# Altium schematic symbol library Schlib1.SchLib: 77 symbols
Pins are listed as number, name and electrical type; pins without a type are passive.

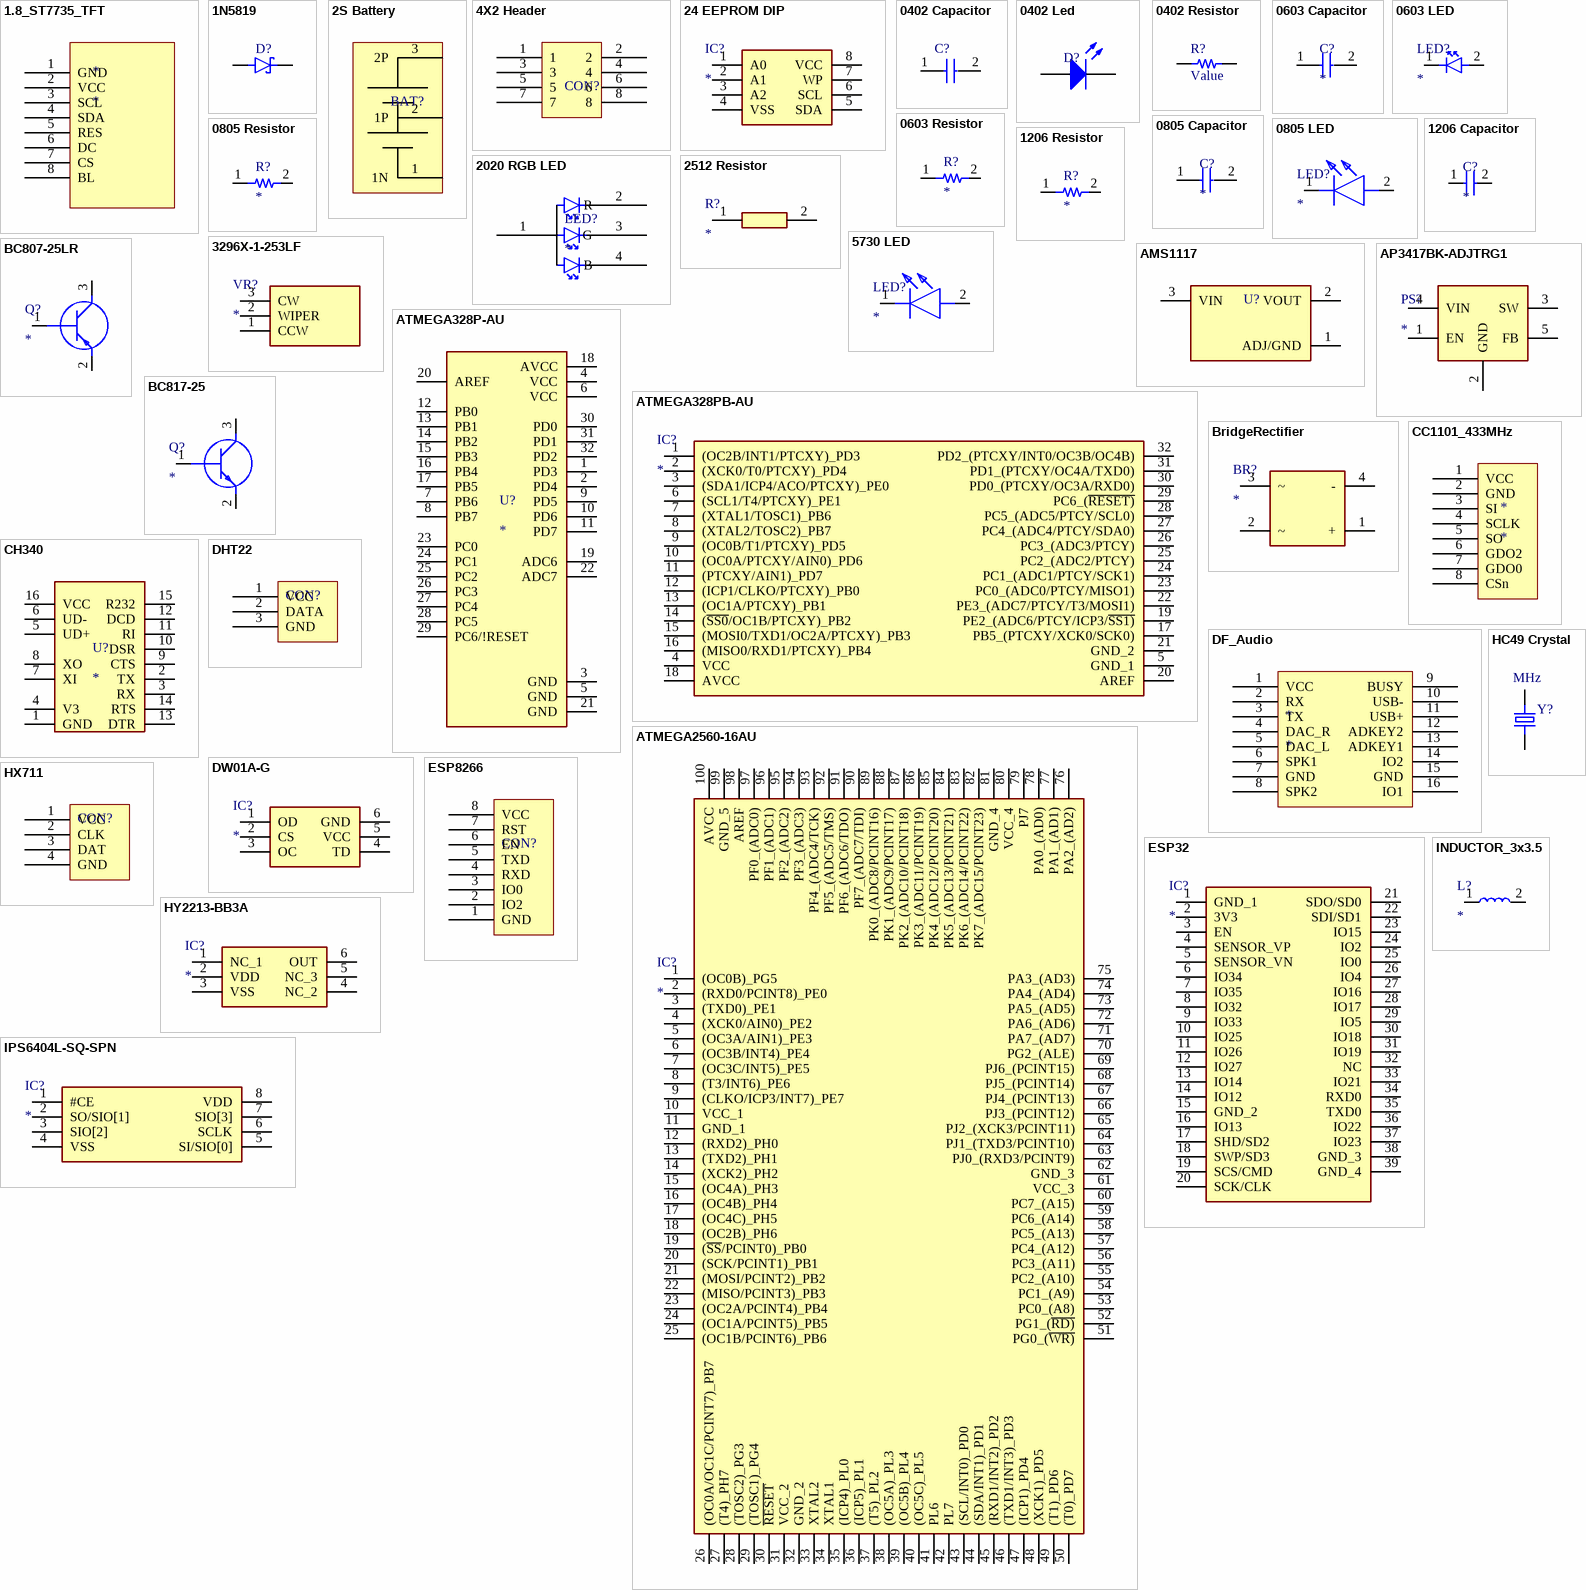
[diagram p0: symbols 1.8_ST7735_TFT to IPS6404L-SQ-SPN]

## 1.8_ST7735_TFT
designator *
footprint 1.8_ST7735_TFT
pins: 1 GND, 2 VCC, 3 SCL, 4 SDA, 5 RES, 6 DC, 7 CS, 8 BL

## 1N5819
designator D?
MF: Diodes Inc.; MP: 1N5819HW-7-F; Price: None; Package: SOD-123 Diodes Inc.; Value: *; SnapEDA_Link: https://www.snapeda.com/parts/1N5819HW-7-F/Diodes%20Inc./view-part/42272/?ref=snap; Availability: Unavailable
footprint 1N5819
pins: A, C K

## 2S Battery
designator BAT?
footprint Battery Connector
pins: 1 1N, 2 1P, 3 2P

## 4X2 Header
designator CON?
footprint 4x2
pins: 1, 2, 3, 4, 5, 6, 7, 8

## 24 EEPROM DIP
designator IC?
Integrated Circuit; Manufacturer_Name: Microchip; Manufacturer_Part_Number: 24AA025-I/P; Datasheet Link: http://ww1.microchip.com/downloads/en/DeviceDoc/21210N.pdf; Height: 5.334mm; Mouser Part Number: 579-24AA025-I/P; Mouser Price/Stock: https://www.mouser.com/Search/Refine.aspx?Keyword=579-24AA025-I%2FP; Arrow Part Number: 24AA025-I/P; Arrow Price/Stock: https://www.arrow.com/en/products/24aa025-ip/microchip-technology
footprint DIP 24 EEPROM
pins: 1 A0, 2 A1, 3 A2, 4 VSS, 5 SDA, 6 SCL, 7 WP, 8 VCC

## 0402 Capacitor
designator C?
Part Number: CL05A106MP8NUB8; Manufacturer: Samsung Electro-Mechanics; Capacitance: 10µF; Temperature Coefficient: X5R; Tolerance: ±20%; Voltage - Rated: 10V; Applications: General Purpose; ComponentLink1Description: Datasheet; ComponentLink1URL: http://www.samsungsem.com/kr/support/product-search/mlcc/CL05A106MP8NUB8.jsp; ComponentLink2Description: DigiKey Link; ComponentLink2URL: http://digikey.com/product-detail/en/samsung-electro-mechanics/CL05A106MP8NUB8/1276-6830-1-ND/5961689; Device Package: 0402 (1005 Metric); LastUpdated: 19.01.2020 16:07:13; Lifecycle Status: Active; Minimum Order: 1; Mounting Type: Surface Mount, MLCC; Operating Temperature: -55°C ~ 85°C; Package / Case: 0402 (1005 Metric); Packaging: TapeAndReel; PartId: 1758; Part Status: Active; Price: 0.08; Series: CL; Size / Dimension: 0.039" L x 0.020" W (1.00mm x 0.50mm); Supplier 1: DigiKey; Supplier Part Number 1: 1276-6830-1-ND; Thickness (Max): 0.035" (0.90mm)
footprint 0402 Cap
pins: 1, 2

## 0402 Led
designator D?
footprint 0402 Led
pins: 1 A, 2 K

## 0402 Resistor
designator R?, comment Value
Part Number: RP73PF1E10KBTD; Manufacturer: TE Connectivity Passive Product; Power (Watts): 0.1W, 1/10W; Resistance: 10 kOhms; Temperature Coefficient: ±25ppm/°C; Tolerance: ±0.1%; ComponentLink1Description: Datasheet; ComponentLink1URL: https://www.te.com/commerce/DocumentDelivery/DDEController?Action=srchrtrv&DocNm=1773272&DocType=DS&DocLang=English; ComponentLink2Description: DigiKey Link; ComponentLink2URL: http://digikey.com/product-detail/en/te-connectivity-passive-product/RP73PF1E10KBTD/A127415CT-ND/8261381; Composition: Thin Film; Device Package: 0402 (1005 Metric); Height - Seated (Max): 0.014" (0.35mm); LastUpdated: 19.01.2020 16:11:48; Lifecycle Status: Active; Minimum Order: 1; Number of Terminations: 2; Operating Temperature: -55°C ~ 155°C; Package / Case: 0402 (1005 Metric); Packaging: TapeAndReel; PartId: 2434; Part Status: Active; Price: 0.08; Series: RP73P, Holsworthy; Size / Dimension: 0.039" L x 0.020" W (1.00mm x 0.50mm); Supplier 1: DigiKey; Supplier Part Number 1: A127415CT-ND; Supplier Device Package: 0402; Value: Value
footprint 0402 Res
pins: 1, 2

## 0603 Capacitor
designator C?
Capacitor; Manufacturer_Name: AVX; Manufacturer_Part_Number: 06031A120JAT2A; Datasheet Link: http://www.mouser.com/catalog/supplier/library/pdf/AVXSurfaceMountCeramic.pdf; Height: 0.9mm; Mouser Part Number: 581-06031A120J; Mouser Price/Stock: https://www.mouser.co.uk/ProductDetail/AVX/06031A120JAT2A?qs=tMrmimOZp5UsY%252BxF6dNGxQ%3D%3D; Arrow Part Number: 06031A120JAT2A; Arrow Price/Stock: https://www.arrow.com/en/products/06031a120jat2a/avx
footprint 0603 Capacitor
pins: 1, 2

## 0603 LED
designator LED?
LED; Manufacturer_Name: Wurth Elektronik; Manufacturer_Part_Number: 150060GS55040; Datasheet Link: https://katalog.we-online.de/led/datasheet/150060GS55040.pdf; Height: 0.5mm; Mouser Part Number: 710-150060GS55040; Mouser Price/Stock: https://www.mouser.com/Search/Refine.aspx?Keyword=710-150060GS55040
footprint 0603 LED
pins: 1 K, 2 A

## 0603 Resistor
designator R?
Resistor; Manufacturer_Name: TE Connectivity; Manufacturer_Part_Number: CPF0603B100RE1; Datasheet Link: http://www.farnell.com/datasheets/1786775.pdf; Height: 0.55mm; Mouser Part Number: 279-CPF0603B100RE1; Mouser Price/Stock: https://www.mouser.co.uk/ProductDetail/TE-Connectivity-Neohm/CPF0603B100RE1?qs=DfH2yQaBz6s2KWheq2AlNw%3D%3D; Arrow Part Number: CPF0603B100RE1; Arrow Price/Stock: https://www.arrow.com/en/products/cpf0603b100re1/te-connectivity
footprint 0603 Resistor
pins: 1, 2

## 0805 Capacitor
designator C?
Capacitor; Manufacturer_Name: TDK; Manufacturer_Part_Number: C3216C0G1H682J060AA; Datasheet Link: https://product.tdk.com/info/en/catalog/datasheets/mlcc_commercial_midvoltage_en.pdf; Height: 0.75mm; Mouser Part Number: 810-C3216C0G1H682J-1; Mouser Price/Stock: https://www.mouser.com/Search/Refine.aspx?Keyword=810-C3216C0G1H682J-1
footprint 0805 Capacitor
pins: 1, 2

## 0805 LED
designator LED?
LED; Manufacturer_Name: Wurth Elektronik; Manufacturer_Part_Number: 150060GS55040; Datasheet Link: https://katalog.we-online.de/led/datasheet/150060GS55040.pdf; Height: 0.5mm; Mouser Part Number: 710-150060GS55040; Mouser Price/Stock: https://www.mouser.com/Search/Refine.aspx?Keyword=710-150060GS55040
footprint 0805 LED
pins: 1 K, 2 A

## 0805 Resistor
designator R?
Resistor; Manufacturer_Name: TE Connectivity; Manufacturer_Part_Number: CPF0603B100RE1; Datasheet Link: http://www.farnell.com/datasheets/1786775.pdf; Height: 0.55mm; Mouser Part Number: 279-CPF0603B100RE1; Mouser Price/Stock: https://www.mouser.co.uk/ProductDetail/TE-Connectivity-Neohm/CPF0603B100RE1?qs=DfH2yQaBz6s2KWheq2AlNw%3D%3D; Arrow Part Number: CPF0603B100RE1; Arrow Price/Stock: https://www.arrow.com/en/products/cpf0603b100re1/te-connectivity
footprint 0805 Resistor
pins: 1, 2

## 1206 Capacitor
designator C?
Capacitor; Manufacturer_Name: TDK; Manufacturer_Part_Number: C3216C0G1H682J060AA; Datasheet Link: https://product.tdk.com/info/en/catalog/datasheets/mlcc_commercial_midvoltage_en.pdf; Height: 0.75mm; Mouser Part Number: 810-C3216C0G1H682J-1; Mouser Price/Stock: https://www.mouser.com/Search/Refine.aspx?Keyword=810-C3216C0G1H682J-1
footprint 1206 Cap
pins: 1, 2

## 1206 Resistor
designator R?
Resistor; Manufacturer_Name: Bourns; Manufacturer_Part_Number: CR1206-FX-10R0ELF; Datasheet Link: http://www.bourns.com/data/global/pdfs/CHPREZTR.pdf; Height: 0.75mm; Mouser Part Number: 652-CR1206FX-10R0ELF; Mouser Price/Stock: https://www.mouser.com/Search/Refine.aspx?Keyword=652-CR1206FX-10R0ELF; Arrow Part Number: CR1206-FX-10R0ELF; Arrow Price/Stock: https://www.arrow.com/en/products/cr1206-fx-10r0elf/bourns
footprint 1206 Resistor
pins: 1, 2

## 2020 RGB LED
designator LED?
LED; Manufacturer_Name: Foshan NationStar Optoelectronics; Manufacturer_Part_Number: FM-B2020RGBA-HG; Datasheet Link: https://datasheet.lcsc.com/szlcsc/Foshan-NationStar-Optoelectronics-FM-B2020RGBA-HG_C108793.pdf; Height: 1.1mm
footprint 20x20 RGB LED
pins: 1, 2 R, 3 G, 4 B

## 2512 Resistor
designator R?
Resistor; Manufacturer_Name: Bourns; Manufacturer_Part_Number: CR2512-F/-1R00ELF; Height: 0.75mm; Mouser Part Number: 652-CR2512-F/1R00ELF; Mouser Price/Stock: https://www.mouser.co.uk/ProductDetail/Bourns/CR2512-F-1R00ELF/?qs=W%2FMpXkg%252BdQ6b1PcPiGLK9Q%3D%3D
footprint 2512 Resistor
pins: 1, 2

## 3296X-1-253LF
designator VR?
Variable Resistor; Manufacturer_Name: Bourns; Manufacturer_Part_Number: 3296X-1-253LF; Datasheet Link: https://www.bourns.com/pdfs/3296.pdf; Height: 10.28mm; Mouser Part Number: 652-3296X-1-253LF; Mouser Price/Stock: https://www.mouser.co.uk/ProductDetail/Bourns/3296X-1-253LF/?qs=vjljXApjgZXIAn2HCf0jBQ%3D%3D; Arrow Part Number: 3296X-1-253LF; Arrow Price/Stock: https://www.arrow.com/en/products/3296x-1-253lf/bourns
footprint 3296X1253LF
pins: 1 CCW, 2 WIPER, 3 CW

## 5730 LED
designator LED?
LED; Manufacturer_Name: Wurth Elektronik; Manufacturer_Part_Number: 150060GS55040; Datasheet Link: https://katalog.we-online.de/led/datasheet/150060GS55040.pdf; Height: 0.5mm; Mouser Part Number: 710-150060GS55040; Mouser Price/Stock: https://www.mouser.com/Search/Refine.aspx?Keyword=710-150060GS55040
footprint 5730 LED
pins: 1 K, 2 A

## AMS1117
designator U?
MP: AMS1117; MF: Seeed Technology; Availability: Unavailable; SnapEDA_Link: https://www.snapeda.com/parts/AMS1117/Seeed%20Technology%20Co.%2C%20Ltd/view-part/184428/?ref=snap; Price: None; Value: *; Package: SOT-223 Seeed Technology
footprint AMS1117_SOT223
pins: 1 ADJ/GND (power), 2 VOUT, 3 VIN

## AP3417BK-ADJTRG1
designator PS?
Power Supply; Manufacturer_Name: Diodes Inc.; Manufacturer_Part_Number: AP3417BK-ADJTRG1; Datasheet Link: https://www.diodes.com/assets/Datasheets/AP3417B.pdf; Height: 1.45mm; Mouser Part Number: 621-AP3417BK-ADJTRG1; Mouser Price/Stock: https://www.mouser.com/Search/Refine.aspx?Keyword=621-AP3417BK-ADJTRG1; Arrow Part Number: AP3417BK-ADJTRG1; Arrow Price/Stock: https://www.arrow.com/en/products/ap3417bk-adjtrg1/diodes-incorporated
footprint SOT BUCK
pins: 1 EN, 2 GND, 3 SW, 4 VIN, 5 FB

## ATMEGA328P-AU
designator U?
MP: ATMEGA328P-AU; MF: Microchip Technology; Availability: Unavailable; Package: TQFP-32 Microchip Technology; Value: *; Price: None; SnapEDA_Link: https://www.snapeda.com/parts/ATMEGA328P-AU/Microchip/view-part/4593405/?ref=snap
footprint 328p-au
pins: 1 PD3, 2 PD4, 3 GND (power), 4 VCC (power), 5 GND (power), 6 VCC (power), 7 PB6, 8 PB7, 9 PD5, 10 PD6, 11 PD7, 12 PB0, 13 PB1, 14 PB2, 15 PB3, 16 PB4, 17 PB5, 18 AVCC (power), 19 ADC6, 20 AREF, 21 GND (power), 22 ADC7, 23 PC0, 24 PC1, 25 PC2, 26 PC3, 27 PC4, 28 PC5, 29 PC6/!RESET, 30 PD0, 31 PD1, 32 PD2

## ATMEGA328PB-AU
designator IC?
Integrated Circuit; Manufacturer_Name: Microchip; Manufacturer_Part_Number: ATMEGA328PB-AU; Datasheet Link: http://www.farnell.com/datasheets/2014286.pdf; Height: 1.2mm; Mouser Part Number: 556-ATMEGA328PB-AU; Mouser Price/Stock: https://www.mouser.co.uk/ProductDetail/Microchip-Technology-Atmel/ATMEGA328PB-AU?qs=jy4bLUHv09hbFONgGrqPbw%3D%3D; Arrow Part Number: ATMEGA328PB-AU; Arrow Price/Stock: https://www.arrow.com/en/products/atmega328pb-au/microchip-technology
footprint 328PB-AU
pins: 1 (OC2B/INT1/PTCXY)_PD3, 2 (XCK0/T0/PTCXY)_PD4, 3 (SDA1/ICP4/ACO/PTCXY)_PE0, 4 VCC, 5 GND_1, 6 (SCL1/T4/PTCXY)_PE1, 7 (XTAL1/TOSC1)_PB6, 8 (XTAL2/TOSC2)_PB7, 9 (OC0B/T1/PTCXY)_PD5, 10 (OC0A/PTCXY/AIN0)_PD6, 11 (PTCXY/AIN1)_PD7, 12 (ICP1/CLKO/PTCXY)_PB0, 13 (OC1A/PTCXY)_PB1, 14 (~{SS0}/OC1B/PTCXY)_PB2, 15 (MOSI0/TXD1/OC2A/PTCXY)_PB3, 16 (MISO0/RXD1/PTCXY)_PB4, 17 PB5_(PTCXY/XCK0/SCK0), 18 AVCC, 19 PE2_(ADC6/PTCY/ICP3/~{SS1)}, 20 AREF, 21 GND_2, 22 PE3_(ADC7/PTCY/T3/MOSI1), 23 PC0_(ADC0/PTCY/MISO1), 24 PC1_(ADC1/PTCY/SCK1), 25 PC2_(ADC2/PTCY), 26 PC3_(ADC3/PTCY), 27 PC4_(ADC4/PTCY/SDA0), 28 PC5_(ADC5/PTCY/SCL0), 29 PC6_(~{RESET)}, 30 PD0_(PTCXY/OC3A/RXD0), 31 PD1_(PTCXY/OC4A/TXD0), 32 PD2_(PTCXY/INT0/OC3B/OC4B)

## ATMEGA2560-16AU
designator IC?
Integrated Circuit; Manufacturer_Name: Microchip; Manufacturer_Part_Number: ATMEGA2560-16AU; Datasheet Link: http://docs-emea.rs-online.com/webdocs/0d68/0900766b80d68730.pdf; Height: 1.2mm; Mouser Part Number: 556-ATMEGA2560-16AU; Mouser Price/Stock: https://www.mouser.co.uk/ProductDetail/Microchip-Technology-Atmel/ATMEGA2560-16AU?qs=aqrrBurbvGciYmlAokFS0w%3D%3D; Arrow Part Number: ATMEGA2560-16AU; Arrow Price/Stock: https://www.arrow.com/en/products/atmega2560-16au/microchip-technology
footprint ATMEGA2560
pins: 1 (OC0B)_PG5, 2 (RXD0/PCINT8)_PE0, 3 (TXD0)_PE1, 4 (XCK0/AIN0)_PE2, 5 (OC3A/AIN1)_PE3, 6 (OC3B/INT4)_PE4, 7 (OC3C/INT5)_PE5, 8 (T3/INT6)_PE6, 9 (CLKO/ICP3/INT7)_PE7, 10 VCC_1, 11 GND_1, 12 (RXD2)_PH0, 13 (TXD2)_PH1, 14 (XCK2)_PH2, 15 (OC4A)_PH3, 16 (OC4B)_PH4, 17 (OC4C)_PH5, 18 (OC2B)_PH6, 19 (~{SS}/PCINT0)_PB0, 20 (SCK/PCINT1)_PB1, 21 (MOSI/PCINT2)_PB2, 22 (MISO/PCINT3)_PB3, 23 (OC2A/PCINT4)_PB4, 24 (OC1A/PCINT5)_PB5, 25 (OC1B/PCINT6)_PB6, 26 (OC0A/OC1C/PCINT7)_PB7, 27 (T4)_PH7, 28 (TOSC2)_PG3, 29 (TOSC1)_PG4, 30 ~{RESET}, 31 VCC_2, 32 GND_2, 33 XTAL2, 34 XTAL1, 35 (ICP4)_PL0, 36 (ICP5)_PL1, 37 (T5)_PL2, 38 (OC5A)_PL3, 39 (OC5B)_PL4, 40 (OC5C)_PL5, 41 PL6, 42 PL7, 43 (SCL/INT0)_PD0, 44 (SDA/INT1)_PD1, 45 (RXD1/INT2)_PD2, 46 (TXD1/INT3)_PD3, 47 (ICP1)_PD4, 48 (XCK1)_PD5, 49 (T1)_PD6, 50 (T0)_PD7, 51 PG0_(~{WR)}, 52 PG1_(~{RD)}, 53 PC0_(A8), 54 PC1_(A9), 55 PC2_(A10), 56 PC3_(A11), 57 PC4_(A12), 58 PC5_(A13), 59 PC6_(A14), 60 PC7_(A15), 61 VCC_3, 62 GND_3, 63 PJ0_(RXD3/PCINT9), 64 PJ1_(TXD3/PCINT10), 65 PJ2_(XCK3/PCINT11), 66 PJ3_(PCINT12), 67 PJ4_(PCINT13), 68 PJ5_(PCINT14), 69 PJ6_(PCINT15), 70 PG2_(ALE), 71 PA7_(AD7), 72 PA6_(AD6), 73 PA5_(AD5), 74 PA4_(AD4), 75 PA3_(AD3), 76 PA2_(AD2), 77 PA1_(AD1), 78 PA0_(AD0), 79 PJ7, 80 VCC_4, 81 GND_4, 82 PK7_(ADC15/PCINT23), 83 PK6_(ADC14/PCINT22), 84 PK5_(ADC13/PCINT21), 85 PK4_(ADC12/PCINT20), 86 PK3_(ADC11/PCINT19), 87 PK2_(ADC10/PCINT18), 88 PK1_(ADC9/PCINT17), 89 PK0_(ADC8/PCINT16), 90 PF7_(ADC7/TDI), 91 PF6_(ADC6/TDO), 92 PF5_(ADC5/TMS), 93 PF4_(ADC4/TCK), 94 PF3_(ADC3), 95 PF2_(ADC2), 96 PF1_(ADC1), 97 PF0_(ADC0), 98 AREF, 99 GND_5, 100 AVCC

## BC807-25LR
designator Q?
Transistor BJT PNP; Manufacturer_Name: Nexperia; Manufacturer_Part_Number: BC807-25LR; Datasheet Link: https://assets.nexperia.com/documents/data-sheet/BC807L_BC807LW.pdf; Height: 1.1mm; Mouser Part Number: 771-BC807-25LR; Mouser Price/Stock: https://www.mouser.co.uk/ProductDetail/Nexperia/BC807-25LR?qs=f9yNj16SXrKCSYJnQQBFCw%3D%3D
footprint BC807
pins: 1 B, 2 E, 3 C

## BC817-25
designator Q?
Transistor BJT NPN; Manufacturer_Name: Nexperia; Manufacturer_Part_Number: BC817-25; Datasheet Link: https://assets.nexperia.com/documents/data-sheet/BC817_BC817W_BC337.pdf; Height: 1.1mm; Mouser Part Number: N/A; Mouser Price/Stock: https://www.mouser.com/Search/Refine.aspx?Keyword=N%2FA
footprint BC817
pins: 1 B, 2 E, 3 C

## BridgeRectifier
designator BR?
Bridge Rectifier; Manufacturer_Name: Comchip Technology; Manufacturer_Part_Number: GBU1502-G; Datasheet Link: http://www.comchiptech.com/admin/files/product/GBU10005-G%20Thru401984.%20GBU1010-G%20RevC.pdf; Height: 19.1mm; Mouser Part Number: 750-GBU1502-G; Mouser Price/Stock: https://www.mouser.com/Search/Refine.aspx?Keyword=750-GBU1502-G
footprint GBU15
pins: 1 +, 2 ~, 3 ~, 4 -

## CC1101_433MHz
designator *
footprint CC1101_433MHz
pins: 1 VCC, 2 GND, 3 SI, 4 SCLK, 5 SO, 6 GDO2, 7 GDO0, 8 CSn

## CH340
designator U?
MF: Eaton; MP: CH340; Availability: Unavailable; Price: None; Package: None; Value: *; SnapEDA_Link: https://www.snapeda.com/parts/CH340/Eaton/view-part/4701946/?ref=snap
footprint ch340g-SOIC16
pins: 1 GND (power), 2 TX, 3 RX, 4 V3, 5 UD+, 6 UD-, 7 XI, 8 XO, 9 CTS, 10 DSR, 11 RI, 12 DCD, 13 DTR, 14 RTS, 15 R232, 16 VCC

## DF_Audio
designator *
footprint DF_AUDIO
pins: 1 VCC, 2 RX, 3 TX, 4 DAC_R, 5 DAC_L, 6 SPK1, 7 GND, 8 SPK2, 9 BUSY, 10 USB-, 11 USB+, 12 ADKEY2, 13 ADKEY1, 14 IO2, 15 GND, 16 IO1

## DHT22
designator CON?
footprint DHT22; pin to pad 3>4
pins: 1 VCC, 2 DATA, 3 GND

## DW01A-G
designator IC?
Integrated Circuit; Manufacturer_Name: Fortune Semiconductor Corporation; Manufacturer_Part_Number: DW01A-G; Datasheet Link: http://acoptex.com/uploads/DW01A.pdf; Height: 1.35mm
footprint DW01a
pins: 1 OD, 2 CS, 3 OC, 4 TD, 5 VCC, 6 GND

## ESP32
designator IC?
Integrated Circuit; Manufacturer_Name: Espressif Systems; Manufacturer_Part_Number: ESP-WROOM-32D; Datasheet Link: https://componentsearchengine.com/Datasheets/1/ESP-WROOM-32D.pdf; Height: 3.2mm; Mouser Part Number: 356-ESP-WROOM-32D; Mouser Price/Stock: https://www.mouser.co.uk/ProductDetail/Espressif-Systems/ESP-WROOM-32D?qs=MLItCLRbWsyWVKgdQMcFuQ%3D%3D
footprint ESP32
pins: 1 GND_1, 2 3V3, 3 EN, 4 SENSOR_VP, 5 SENSOR_VN, 6 IO34, 7 IO35, 8 IO32, 9 IO33, 10 IO25, 11 IO26, 12 IO27, 13 IO14, 14 IO12, 15 GND_2, 16 IO13, 17 SHD/SD2, 18 SWP/SD3, 19 SCS/CMD, 20 SCK/CLK, 21 SDO/SD0, 22 SDI/SD1, 23 IO15, 24 IO2, 25 IO0, 26 IO4, 27 IO16, 28 IO17, 29 IO5, 30 IO18, 31 IO19, 32 NC, 33 IO21, 34 RXD0, 35 TXD0, 36 IO22, 37 IO23, 38 GND_3, 39 GND_4

## ESP8266
designator CON?
footprint ESP8266
pins: 1 GND, 2 IO2, 3 IO0, 4 RXD, 5 TXD, 6 EN, 7 RST, 8 VCC

## HC49 Crystal
designator Y?  value MHz
MF: ECS Inc.; MP: ECS-80-18-4XDN; Digi-Key_Part_Number: X1115-ND; Package: HC-49/US ECS International; SnapEDA_Link: https://www.snapeda.com/parts/ECS-80-18-4XDN/ECS%20Inc./view-part/49558/?ref=snap; Digi-Key_Purchase_URL: https://www.digikey.in/product-detail/en/ecs-inc/ECS-80-18-4XDN/X1115-ND/827606?utm_source=snapeda&utm_medium=aggregator&utm_campaign=symbol
footprint Crystal-HC49
pins: 1, 2

## HX711
designator CON?
footprint HX711
pins: 1 VCC, 2 CLK, 3 DAT, 4 GND

## HY2213-BB3A
designator IC?
Integrated Circuit; Manufacturer_Name: Hycon; Manufacturer_Part_Number: HY2213-BB3A; Datasheet Link: https://datasheet.lcsc.com/szlcsc/HYCON-Tech-HY2213-BB3A_C113632.pdf; Height: 1.4mm
footprint HY2213
pins: 1 NC_1, 2 VDD, 3 VSS, 4 NC_2, 5 NC_3, 6 OUT

## INDUCTOR_3x3.5
designator L?
Inductor; Manufacturer_Name: Shuo Xing; Manufacturer_Part_Number: CD32-4R7M; Datasheet Link: http://aitendo3.sakura.ne.jp/aitendo_data/product_img/parts/coil/CD32/CD32.pdf; Height: 2.4mm
footprint INDUCTOR_3x3.5
pins: 1, 2

## IPS6404L-SQ-SPN
designator IC?
Integrated Circuit; Manufacturer_Name: Electrodragon; Manufacturer_Part_Number: IPS6404L-SQ-SPN; Datasheet Link: https://github.com/Edragon/Datasheet/blob/master/IPUS/IPUS%2064Mbit.pdf; Height: 1.75mm
footprint SOIC127P600X175-8N
pins: 1 #CE, 2 SO/SIO[1], 3 SIO[2], 4 VSS, 5 SI/SIO[0], 6 SCLK, 7 SIO[3], 8 VDD

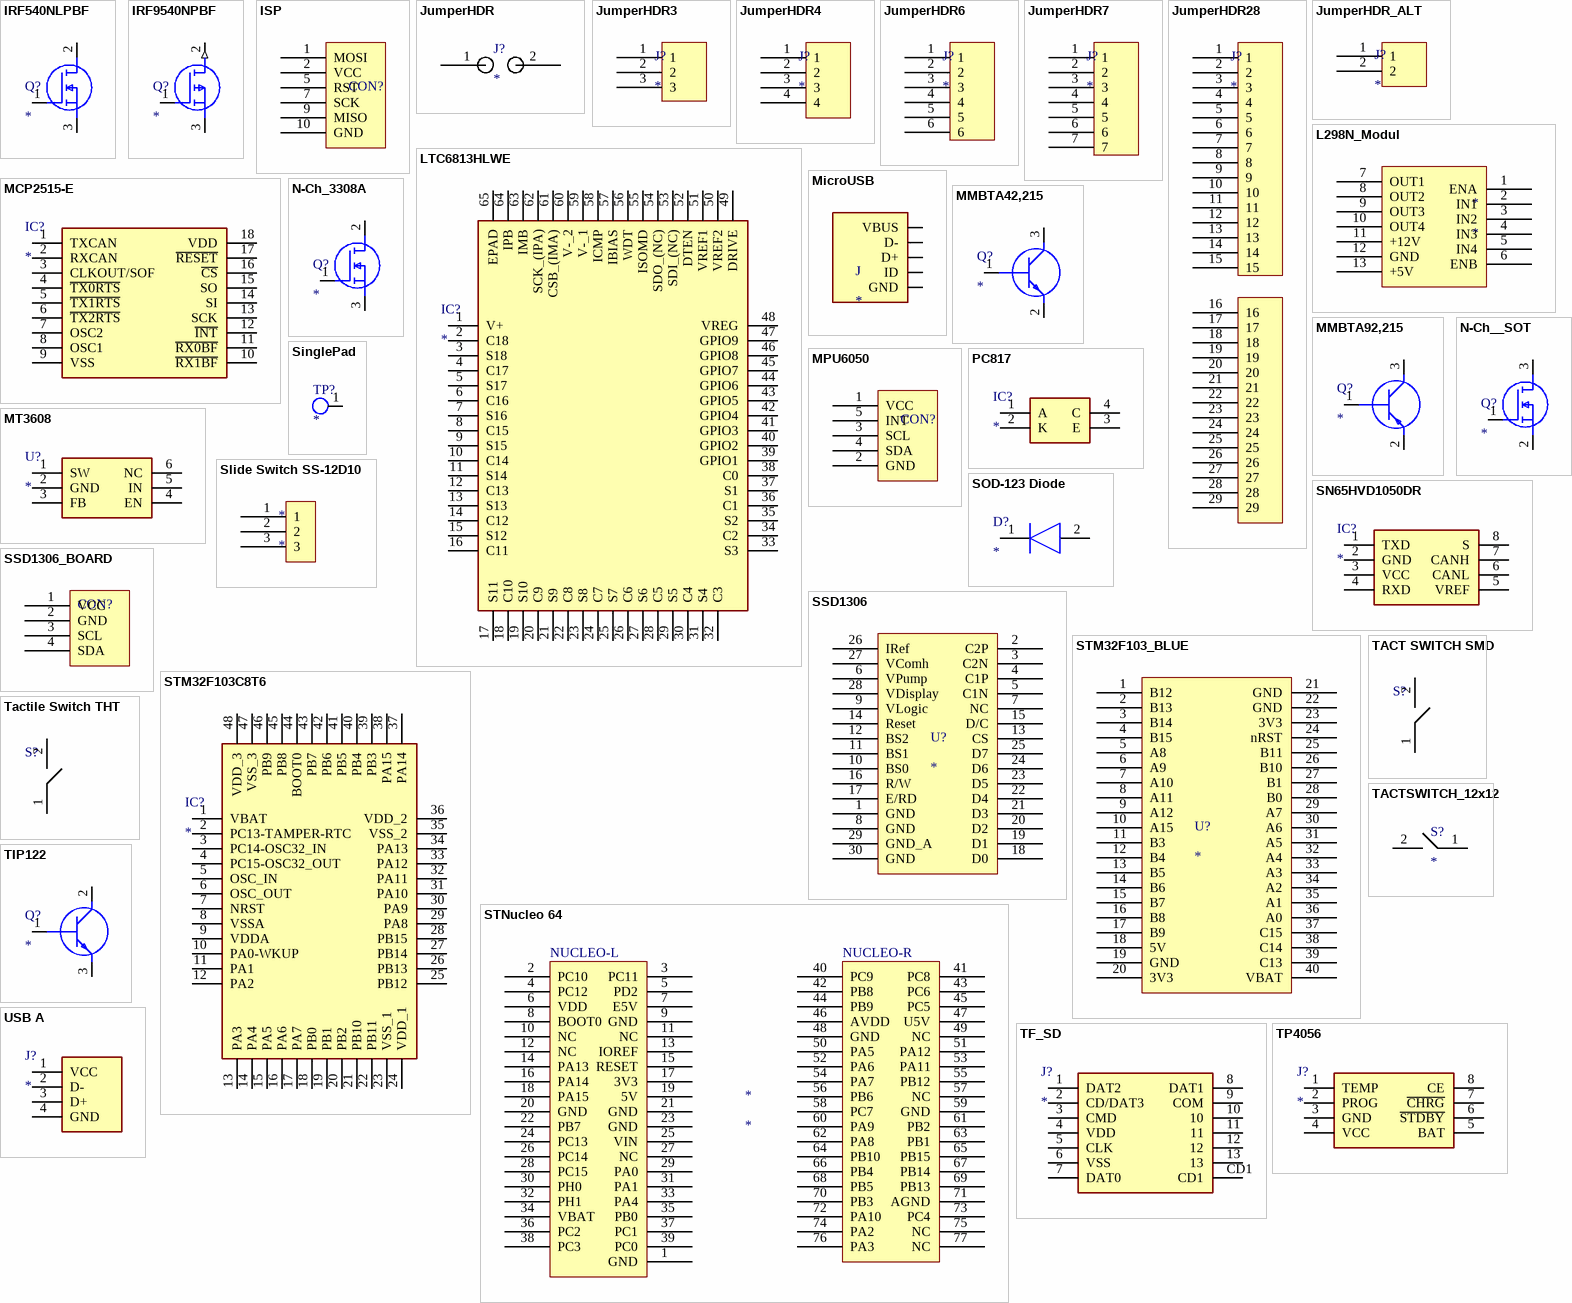
[diagram p1: symbols IRF540NLPBF to USB A]

## IRF540NLPBF
designator Q?
MOSFET (N-Channel); Manufacturer_Name: Infineon; Manufacturer_Part_Number: IRF540NLPBF; Datasheet Link: https://www.infineon.com/dgdl/irf540nspbf.pdf?fileId=5546d462533600a4015355e3a72819a3; Height: 4.83mm; Mouser Part Number: 942-IRF540NLPBF; Mouser Price/Stock: https://www.mouser.co.uk/ProductDetail/Infineon-IR/IRF540NLPBF?qs=9%252BKlkBgLFf0FQw5bWQHS0A%3D%3D; Arrow Part Number: IRF540NLPBF; Arrow Price/Stock: https://www.arrow.com/en/products/irf540nlpbf/infineon-technologies-ag?region=europe
footprint TO254P483X1016X1501-3P
pins: 1 G, 2 D, 3 S

## IRF9540NPBF
designator Q?
MOSFET (P-Channel); Manufacturer_Name: Infineon; Manufacturer_Part_Number: IRF9540NPBF; Datasheet Link: https://www.infineon.com/dgdl/irf9540npbf.pdf?fileId=5546d462533600a401535611cfa21dc8; Height: 4.69mm; Mouser Part Number: 942-IRF9540NPBF; Mouser Price/Stock: https://www.mouser.co.uk/ProductDetail/Infineon-IR/IRF9540NPBF?qs=9%252BKlkBgLFf0vnuA8mxUPtw%3D%3D; Arrow Part Number: IRF9540NPBF; Arrow Price/Stock: https://www.arrow.com/en/products/irf9540npbf/infineon-technologies-ag?region=nac
footprint TO254P469X1042X1967-3P
pins: 1 G (power), 2 D (out), 3 S (power)

## ISP
designator CON?
footprint ISP; pin to pad 10>4
pins: 1 MOSI, 2 VCC, 5 RST, 7 SCK, 9 MISO, 10 GND

## JumperHDR
designator J?
footprint JumperHDR
pins: 1, 2

## JumperHDR3
designator J?
footprint JumperHDR3
pins: 1, 2, 3

## JumperHDR4
designator J?
footprint JumperHDR4
pins: 1, 2, 3, 4

## JumperHDR6
designator J?
footprint JumperHDR6
pins: 1, 2, 3, 4, 5, 6

## JumperHDR7
designator J?
footprint JumperHDR7
pins: 1, 2, 3, 4, 5, 6, 7

## JumperHDR28
designator J?
footprint JUMPERHDR28
pins: 1, 2, 3, 4, 5, 6, 7, 8, 9, 10, 11, 12, 13, 14, 15, 16, 17, 18, 19, 20, 21, 22, 23, 24, 25, 26, 27, 28, 29

## JumperHDR_ALT
designator J?
footprint JumperHDR
pins: 1, 2

## L298N_Modul
designator *
footprint L298N_Modul
pins: 1 ENA, 2 IN1, 3 IN2, 4 IN3, 5 IN4, 6 ENB, 7 OUT1, 8 OUT2, 9 OUT3, 10 OUT4, 11 +12V, 12 GND, 13 +5V

## LTC6813HLWE
designator IC?
Manufacturer_Name: Linear Technology; Manufacturer_Part_Number: LTC6813HLWE-1#3ZZPBF; Datasheet Link: https://www.analog.com/media/en/technical-documentation/data-sheets/LTC6813-1.pdf; Height: 1.6mm; Mouser Part Number: 584-6813HLWE13ZZPBF; Mouser Price/Stock: https://www.mouser.co.uk/ProductDetail/Analog-Devices-Linear-Technology/LTC6813HLWE-13ZZPBF?qs=lYGu3FyN48e3Qu9IYnRGuQ%3D%3D; Arrow Part Number: LTC6813HLWE-1#3ZZPBF; Arrow Price/Stock: https://www.arrow.com/en/products/ltc6813hlwe-13zzpbf/linear-technology
footprint LTC6813HLWE
pins: 1 V+, 2 C18, 3 S18, 4 C17, 5 S17, 6 C16, 7 S16, 8 C15, 9 S15, 10 C14, 11 S14, 12 C13, 13 S13, 14 C12, 15 S12, 16 C11, 17 S11, 18 C10, 19 S10, 20 C9, 21 S9, 22 C8, 23 S8, 24 C7, 25 S7, 26 C6, 27 S6, 28 C5, 29 S5, 30 C4, 31 S4, 32 C3, 33 S3, 34 C2, 35 S2, 36 C1, 37 S1, 38 C0, 39 GPIO1, 40 GPIO2, 41 GPIO3, 42 GPIO4, 43 GPIO5, 44 GPIO6, 45 GPIO7, 46 GPIO8, 47 GPIO9, 48 VREG, 49 DRIVE, 50 VREF2, 51 VREF1, 52 DTEN, 53 SDI_(NC), 54 SDO_(NC), 55 ISOMD, 56 WDT, 57 IBIAS, 58 ICMP, 59 V-_1, 60 V-_2, 61 CSB_(IMA), 62 SCK_(IPA), 63 IMB, 64 IPB, 65 EPAD

## MCP2515-E
designator IC?
Integrated Circuit; Manufacturer_Name: Microchip; Manufacturer_Part_Number: MCP2515-E/SO; Datasheet Link: http://ww1.microchip.com/downloads/en/DeviceDoc/21801G.pdf; Height: 2.65mm; Mouser Part Number: 579-MCP2515-E/SO; Mouser Price/Stock: https://www.mouser.co.uk/ProductDetail/Microchip-Technology/MCP2515-E-SO?qs=y1t9dHv1DsLUSXaU9a01fg%3D%3D; Arrow Part Number: MCP2515-E/SO; Arrow Price/Stock: https://www.arrow.com/en/products/mcp2515-eso/microchip-technology
footprint MCP2515
pins: 1 TXCAN, 2 RXCAN, 3 CLKOUT/SOF, 4 ~{TX0RTS}, 5 ~{TX1RTS}, 6 ~{TX2RTS}, 7 OSC2, 8 OSC1, 9 VSS, 10 ~{RX1BF}, 11 ~{RX0BF}, 12 ~{INT}, 13 SCK, 14 SI, 15 SO, 16 ~{CS}, 17 ~{RESET}, 18 VDD

## MicroUSB
designator J
MP: ZX62-B-5PA; MF: Hirose; Value: *; Price: None; SnapEDA_Link: https://www.snapeda.com/parts/ZX62-B-5PA/Hirose%20Electric%20Co%20Ltd/view-part/134668/?ref=snap; Availability: Unavailable; Package: None
footprint MicroUSB
pins: 1 VBUS (power), 2 D-, 3 D+, 4 ID, 5 GND (power)

## MMBTA42,215
designator Q?
Transistor BJT NPN; Manufacturer_Name: Nexperia; Manufacturer_Part_Number: MMBTA42,215; Datasheet Link: http://assets.nexperia.com/documents/data-sheet/MMBTA42.pdf; Height: 1.1mm; Mouser Part Number: 771-MMBTA42215; Mouser Price/Stock: https://www.mouser.co.uk/ProductDetail/Nexperia/MMBTA42215?qs=LOCUfHb8d9tIN%2FqE%252BOes3A%3D%3D; Arrow Part Number: MMBTA42,215; Arrow Price/Stock: https://www.arrow.com/en/products/mmbta42215/nexperia
footprint SOT95P230X110-3N
pins: 1 B, 2 E, 3 C

## MMBTA92,215
designator Q?
Transistor BJT PNP; Manufacturer_Name: Nexperia; Manufacturer_Part_Number: MMBTA92,215; Datasheet Link: http://assets.nexperia.com/documents/data-sheet/MMBTA92.pdf; Height: 1.1mm; Mouser Part Number: 771-MMBTA92215; Mouser Price/Stock: https://www.mouser.co.uk/ProductDetail/Nexperia/MMBTA92215?qs=LOCUfHb8d9sekw3BvUrXKw%3D%3D; Arrow Part Number: MMBTA92,215; Arrow Price/Stock: https://www.arrow.com/en/products/mmbta92215/nexperia?region=nac
footprint SOT95P230X110-3N
pins: 1 B, 2 E, 3 C

## MPU6050
designator CON?
footprint MPU6050
pins: 1 VCC, 2 GND, 3 SCL, 4 SDA, 5 INT

## MT3608
designator U?
Undefined or Miscellaneous; Manufacturer_Name: Aerosemi; Manufacturer_Part_Number: MT3608; Datasheet Link: https://www.olimex.com/Products/Breadboarding/BB-PWR-3608/resources/MT3608.pdf; Height: 1.45mm
footprint MT3608
pins: 1 SW, 2 GND, 3 FB, 4 EN, 5 IN, 6 NC

## N-Ch_3308A
designator Q?
MOSFET (N-Channel); Manufacturer_Name: Infineon; Manufacturer_Part_Number: IRLZ44NSTRLPBF; Datasheet Link: https://www.infineon.com/dgdl/irlz44nspbf.pdf?fileId=5546d462533600a40153567221272727; Height: 4.83mm; Mouser Part Number: 942-IRLZ44NSTRLPBF; Mouser Price/Stock: https://www.mouser.co.uk/ProductDetail/Infineon-IR/IRLZ44NSTRLPBF/?qs=9%252BKlkBgLFf1LijFJvUznEg%3D%3D; Arrow Part Number: IRLZ44NSTRLPBF; Arrow Price/Stock: https://www.arrow.com/en/products/irlz44nstrlpbf/infineon-technologies-ag
footprint DPAK_3308
pins: 1 G, 2 D, 3 S

## N-Ch__SOT
designator Q?
MOSFET (N-Channel); Manufacturer_Name: Infineon; Manufacturer_Part_Number: IRLZ44NSTRLPBF; Datasheet Link: https://www.infineon.com/dgdl/irlz44nspbf.pdf?fileId=5546d462533600a40153567221272727; Height: 4.83mm; Mouser Part Number: 942-IRLZ44NSTRLPBF; Mouser Price/Stock: https://www.mouser.co.uk/ProductDetail/Infineon-IR/IRLZ44NSTRLPBF/?qs=9%252BKlkBgLFf1LijFJvUznEg%3D%3D; Arrow Part Number: IRLZ44NSTRLPBF; Arrow Price/Stock: https://www.arrow.com/en/products/irlz44nstrlpbf/infineon-technologies-ag
footprint NCH_SOT
pins: 1 G, 2 S, 3 D

## PC817
designator IC?
Integrated Circuit; Manufacturer_Name: Galaxy; Manufacturer_Part_Number: PC817; Datasheet Link: http://www.gmesemi.com/KUpload/product/PC/PC817(G).pdf; Height: 5mm
footprint PC817
pins: 1 A, 2 K, 3 E, 4 C

## SinglePad
designator TP?
footprint SinglePad1
footprint SinglePad2
pins: 1

## Slide Switch SS-12D10
designator *
footprint Slide Switch ss12d10
pins: 1, 2, 3

## SN65HVD1050DR
designator IC?
Integrated Circuit; Manufacturer_Name: Texas Instruments; Manufacturer_Part_Number: SN65HVD1050DR; Datasheet Link: https://www.ti.com/lit/ds/symlink/sn65hvd1050.pdf?ts=1618896978538&ref_url=https%253A%252F%252Fwww.google.com%252F; Height: 1.75mm; Mouser Part Number: 595-SN65HVD1050DR; Mouser Price/Stock: https://www.mouser.co.uk/ProductDetail/Texas-Instruments/SN65HVD1050DR?qs=QViXGNcIEAt%2FPpTrdx%252Bq7g%3D%3D; Arrow Part Number: SN65HVD1050DR; Arrow Price/Stock: https://www.arrow.com/en/products/sn65hvd1050dr/texas-instruments
footprint SN65HVD1050DR
pins: 1 TXD, 2 GND, 3 VCC, 4 RXD, 5 VREF, 6 CANL, 7 CANH, 8 S

## SOD-123 Diode
designator D?
Diode; Manufacturer_Name: Vishay; Manufacturer_Part_Number: 1N4148W-G3-08; Datasheet Link: https://componentsearchengine.com/Datasheets/1/1N4148W-G3-08.pdf; Height: 1.35mm; Mouser Part Number: 78-1N4148W-G3-08; Mouser Price/Stock: https://www.mouser.co.uk/ProductDetail/Vishay-Semiconductors/1N4148W-G3-08?qs=uS%252BVSIFnvp46StDBB15x4Q%3D%3D; Arrow Part Number: 1N4148W-G3-08; Arrow Price/Stock: https://www.arrow.com/en/products/1n4148w-g3-08/vishay
footprint SOD123
pins: 1 K, 2 A

## SSD1306
designator U?
footprint SSD1306_FPC
pins: 1 GND (power), 2 C2P, 3 C2N, 4 C1P, 5 C1N, 6 VPump, 7 NC, 8 GND (power), 9 VLogic, 10 BS0, 11 BS1, 12 BS2, 13 CS, 14 Reset, 15 D/C, 16 R/W, 17 E/RD, 18 D0, 19 D1, 20 D2, 21 D3, 22 D4, 23 D5, 24 D6, 25 D7, 26 IRef, 27 VComh, 28 VDisplay, 29 GND_A (power), 30 GND (power)

## SSD1306_BOARD
designator CON?
footprint SSD1306_PCB
pins: 1 VCC, 2 GND, 3 SCL, 4 SDA

## STM32F103_BLUE
designator U?
footprint STM32_BLUE_PILL
pins: 1 B12, 2 B13, 3 B14, 4 B15, 5 A8, 6 A9, 7 A10, 8 A11, 9 A12, 10 A15, 11 B3, 12 B4, 13 B5, 14 B6, 15 B7, 16 B8, 17 B9, 18 5V, 19 GND, 20 3V3, 21 GND, 22 GND, 23 3V3, 24 nRST, 25 B11, 26 B10, 27 B1, 28 B0, 29 A7, 30 A6, 31 A5, 32 A4, 33 A3, 34 A2, 35 A1, 36 A0, 37 C15, 38 C14, 39 C13, 40 VBAT

## STM32F103C8T6
designator IC?
Integrated Circuit; Manufacturer_Name: STMicroelectronics; Manufacturer_Part_Number: STM32F103CBT6; Datasheet Link: http://www.st.com/st-web-ui/static/active/en/resource/technical/document/datasheet/CD00161566.pdf; Height: 1.6mm; Mouser Part Number: 511-STM32F103CBT6; Mouser Price/Stock: https://www.mouser.co.uk/ProductDetail/STMicroelectronics/STM32F103CBT6?qs=WxFF5lh7QM3goh6GV5Ogig%3D%3D; Arrow Part Number: STM32F103CBT6; Arrow Price/Stock: https://www.arrow.com/en/products/stm32f103cbt6/stmicroelectronics
footprint STM32F103C8T6
pins: 1 VBAT, 2 PC13-TAMPER-RTC, 3 PC14-OSC32_IN, 4 PC15-OSC32_OUT, 5 OSC_IN, 6 OSC_OUT, 7 NRST, 8 VSSA, 9 VDDA, 10 PA0-WKUP, 11 PA1, 12 PA2, 13 PA3, 14 PA4, 15 PA5, 16 PA6, 17 PA7, 18 PB0, 19 PB1, 20 PB2, 21 PB10, 22 PB11, 23 VSS_1, 24 VDD_1, 25 PB12, 26 PB13, 27 PB14, 28 PB15, 29 PA8, 30 PA9, 31 PA10, 32 PA11, 33 PA12, 34 PA13, 35 VSS_2, 36 VDD_2, 37 PA14, 38 PA15, 39 PB3, 40 PB4, 41 PB5, 42 PB6, 43 PB7, 44 BOOT0, 45 PB8, 46 PB9, 47 VSS_3, 48 VDD_3

## STNucleo 64
designator *
footprint Nucleo64_FULL
footprint Nucleo64_MorphoOnly
pins: 1 GND, 2 PC10, 3 PC11, 4 PC12, 5 PD2, 6 VDD, 7 E5V, 8 BOOT0, 9 GND, 10 NC, 11 NC, 12 NC, 13 IOREF, 14 PA13, 15 RESET, 16 PA14, 17 3V3, 18 PA15, 19 5V, 20 GND, 21 GND, 22 PB7, 23 GND, 24 PC13, 25 VIN, 26 PC14, 27 NC, 28 PC15, 29 PA0, 30 PH0, 31 PA1, 32 PH1, 33 PA4, 34 VBAT, 35 PB0, 36 PC2, 37 PC1, 38 PC3, 39 PC0, 40 PC9, 41 PC8, 42 PB8, 43 PC6, 44 PB9, 45 PC5, 46 AVDD, 47 U5V, 48 GND, 49 NC, 50 PA5, 51 PA12, 52 PA6, 53 PA11, 54 PA7, 55 PB12, 56 PB6, 57 NC, 58 PC7, 59 GND, 60 PA9, 61 PB2, 62 PA8, 63 PB1, 64 PB10, 65 PB15, 66 PB4, 67 PB14, 68 PB5, 69 PB13, 70 PB3, 71 AGND, 72 PA10, 73 PC4, 74 PA2, 75 NC, 76 PA3, 77 NC
text: NUCLEO-L; NUCLEO-R

## TACT SWITCH SMD
designator S?
MP: B3F-1000; MF: Omron; Price: None; Package: None; Value: *; Availability: Unavailable; SnapEDA_Link: https://www.snapeda.com/parts/B3F-1000/Omron%20Electronics%20Inc-EMC%20Div/view-part/48569/?ref=snap
footprint TACT SWITCH SMD
pins: 1, 2

## Tactile Switch THT
designator S?
MP: B3F-1000; MF: Omron; Price: None; Package: None; Value: *; Availability: Unavailable; SnapEDA_Link: https://www.snapeda.com/parts/B3F-1000/Omron%20Electronics%20Inc-EMC%20Div/view-part/48569/?ref=snap
footprint Tactile Switch THT
pins: 1, 2

## TACTSWITCH_12x12
designator S?
Switch; Manufacturer_Name: Omron Electronics; Manufacturer_Part_Number: B3F-4005; Datasheet Link: http://omronfs.omron.com/en_US/ecb/products/pdf/en-b3f.pdf; Mouser Part Number: 653-B3F-4005; Mouser Price/Stock: https://www.mouser.co.uk/ProductDetail/Omron-Electronics/B3F-4005?qs=B3tblJ0Nlt%2F4UotbOU6yJQ%3D%3D; Arrow Part Number: B3F-4005; Arrow Price/Stock: https://www.arrow.com/en/products/b3f4005/omron?region=nac
footprint 12x12 Tact Switch
pins: 1, 2

## TF_SD
designator J?
Connector; Manufacturer_Name: AVX; Manufacturer_Part_Number: 045138008100858+; Datasheet Link: https://www.mouser.sg/datasheet/2/909/5138-1359342.pdf; Height: 1.4mm; Mouser Part Number: 581-045138008100858+; Mouser Price/Stock: https://www.mouser.com/Search/Refine.aspx?Keyword=581-045138008100858%2B; Arrow Part Number: 045138008100858+; Arrow Price/Stock: https://www.arrow.com/en/products/045138008100858/avx
footprint TF_SD
pins: 1 DAT2, 2 CD/DAT3, 3 CMD, 4 VDD, 5 CLK, 6 VSS, 7 DAT0, 8 DAT1, 9 COM, 10, 11, 12, 13, CD1

## TIP122
designator Q?
Transistor BJT NPN; Manufacturer_Name: STMicroelectronics; Manufacturer_Part_Number: TIP122; Datasheet Link: http://www.st.com/web/en/resource/technical/document/datasheet/CD00000911.pdf; Height: 4.6mm; Mouser Part Number: 511-TIP122; Mouser Price/Stock: https://www.mouser.co.uk/ProductDetail/STMicroelectronics/TIP122/?qs=ljbEvF4DwOPuWPwhe20bIQ%3D%3D; Arrow Part Number: TIP122; Arrow Price/Stock: https://www.arrow.com/en/products/tip122/stmicroelectronics
footprint TIP122
pins: 1 B, 2 C, 3 E

## TP4056
designator J?
Connector; Manufacturer_Name: NanJing Top Power; Manufacturer_Part_Number: TP4056; Datasheet Link: https://dlnmh9ip6v2uc.cloudfront.net/datasheets/Prototyping/TP4056.pdf; Height: 1.75mm
footprint TP4056A
pins: 1 TEMP, 2 PROG, 3 GND, 4 VCC, 5 BAT, 6 ~{STDBY}, 7 ~{CHRG}, 8 CE

## USB A
designator J?
Connector; Manufacturer_Name: Wurth Elektronik; Manufacturer_Part_Number: 629004113921; Datasheet Link: http://katalog.we-online.de/em/datasheet/629004113921.pdf; Mouser Part Number: 710-629004113921; Mouser Price/Stock: https://www.mouser.co.uk/ProductDetail/Wurth-Elektronik/629004113921?qs=35zkduByVmhHRkVkRjAlEQ%3D%3D
footprint 629004113921
pins: 1 VCC, 2 D-, 3 D+, 4 GND